# Altium schematic symbol library TPMIC5504-3.3YMT.SCHLIB: 1 symbol
Pins are listed as number, name and electrical type; pins without a type are passive.

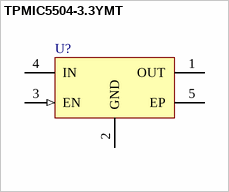
[diagram p0: symbol TPMIC5504-3.3YMT]

## TPMIC5504-3.3YMT
designator U?
pins: 1 OUT (power), 2 GND (power), 3 EN (in), 4 IN (power), 5 EP (power)